# EAGLE library part INA106 (library Opamps)
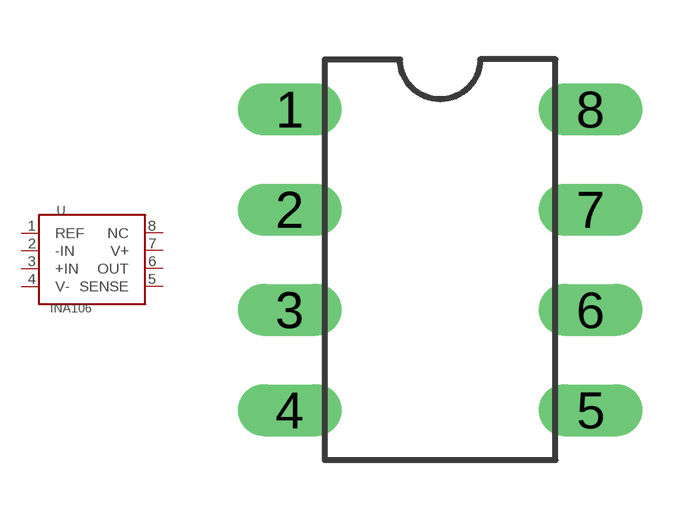
[diagram p5: symbol with the pads of DIL08; footprint DIL08]

Designator prefix U

## INA106  [DIL08]
1  REF
2  -IN
3  +IN
4  V-
5  SENSE
6  OUT
7  V+
8  NC

## Footprint DIL08 (pad centres in mm)
drill 0.813 long: 1 -3.81,3.81; 2 -3.81,1.27; 3 -3.81,-1.27; 4 -3.81,-3.81; 5 3.81,-3.81; 6 3.81,-1.27; 7 3.81,1.27; 8 3.81,3.81